# Altium footprint library BC547.PcbLib: 1 footprints
Each footprint in its own frame and in the unit in brackets; x right, y up, seen from the top. Pads: shape width x height; smd on the part's side, far side on the other; paste and mask are expansions set on the pad; w line width, h text height; cw(c..) or ccw(c..) is an arc to the next point about the centre after c.
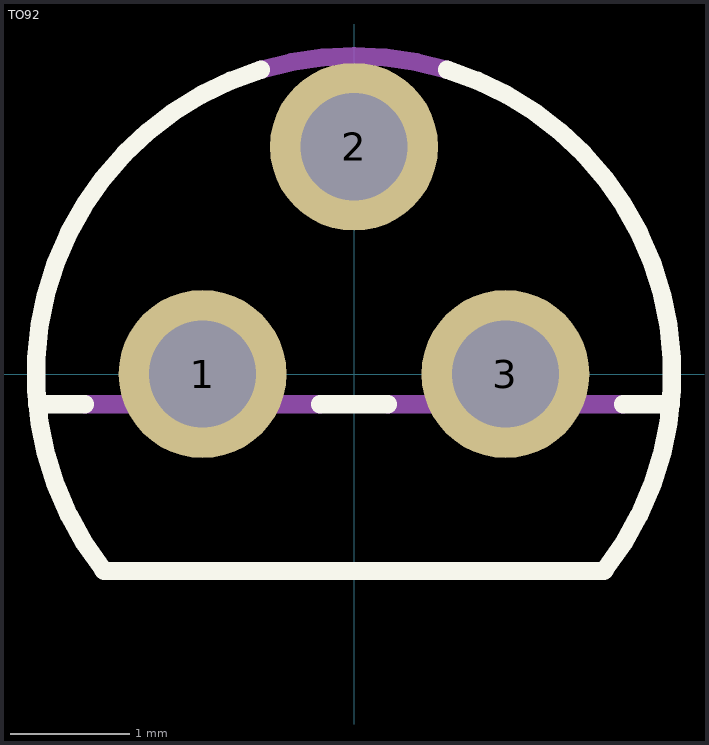
[diagram p0: the footprint, top view; thin cyan lines are the x and y axes]

## TO92 [mm]
pads (3):
  round 1.408 hole 0.9: 1(-1.27,0) 2(0,1.905) 3(1.27,0)
Top Overlay:
  lines w0.152: -2.655,-0.254 -2.254,-0.254 ; -2.102,-1.642 cw(c-0.001,0) -0.78,2.55 ; -2.095,-1.651 2.095,-1.651 ; -0.286,-0.254 0.286,-0.254 ; 0.78,2.55 cw(c0.001,0) 2.102,-1.642 ; 2.254,-0.254 2.655,-0.254
Mechanical 13:
  lines w0.152: -2.254,-0.254 -0.286,-0.254 ; -0.78,2.55 cw(c0,0) 0.78,2.55 ; 0.286,-0.254 2.254,-0.254
3D body "step_temp.STEP": height 5.33, standoff -12.18, extent -2.38,-1.43 2.38,2.19